# EAGLE library part AD799(1/5/9) (library PP_DigitalIC)
Manufacturer Part #: AD7991 / AD7995 / AD7999 Manufacturer: Analog Devices Description: Analog to Digital Converters - ADC 4CH w/ I2C Compatible
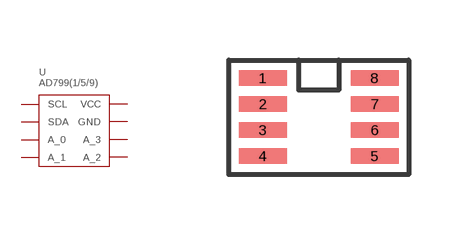
[diagram p12: symbol with the pads of AD799(1/5/9)_SOT-23-8; footprint AD799(1/5/9)_SOT-23-8]

Designator prefix U

## AD799(1/5/9)YRJZ  [AD799(1/5/9)_SOT-23-8]
1  SCL
2  SDA
3  A_0
4  A_1
5  A_2
6  A_3
7  GND
8  VCC

## Footprint AD799(1/5/9)_SOT-23-8 (pad centres in mm)
smd 1.2 x 0.38: 1 -1.4,0.983; 2 -1.4,0.333; 3 -1.4,-0.318; 4 -1.4,-0.968; 5 1.4,-0.968; 6 1.4,-0.318; 7 1.4,0.333; 8 1.4,0.983